# Altium schematic symbol library SMD STATION.SCHLIB: 18 symbols
Pins are listed as number, name and electrical type; pins without a type are passive.

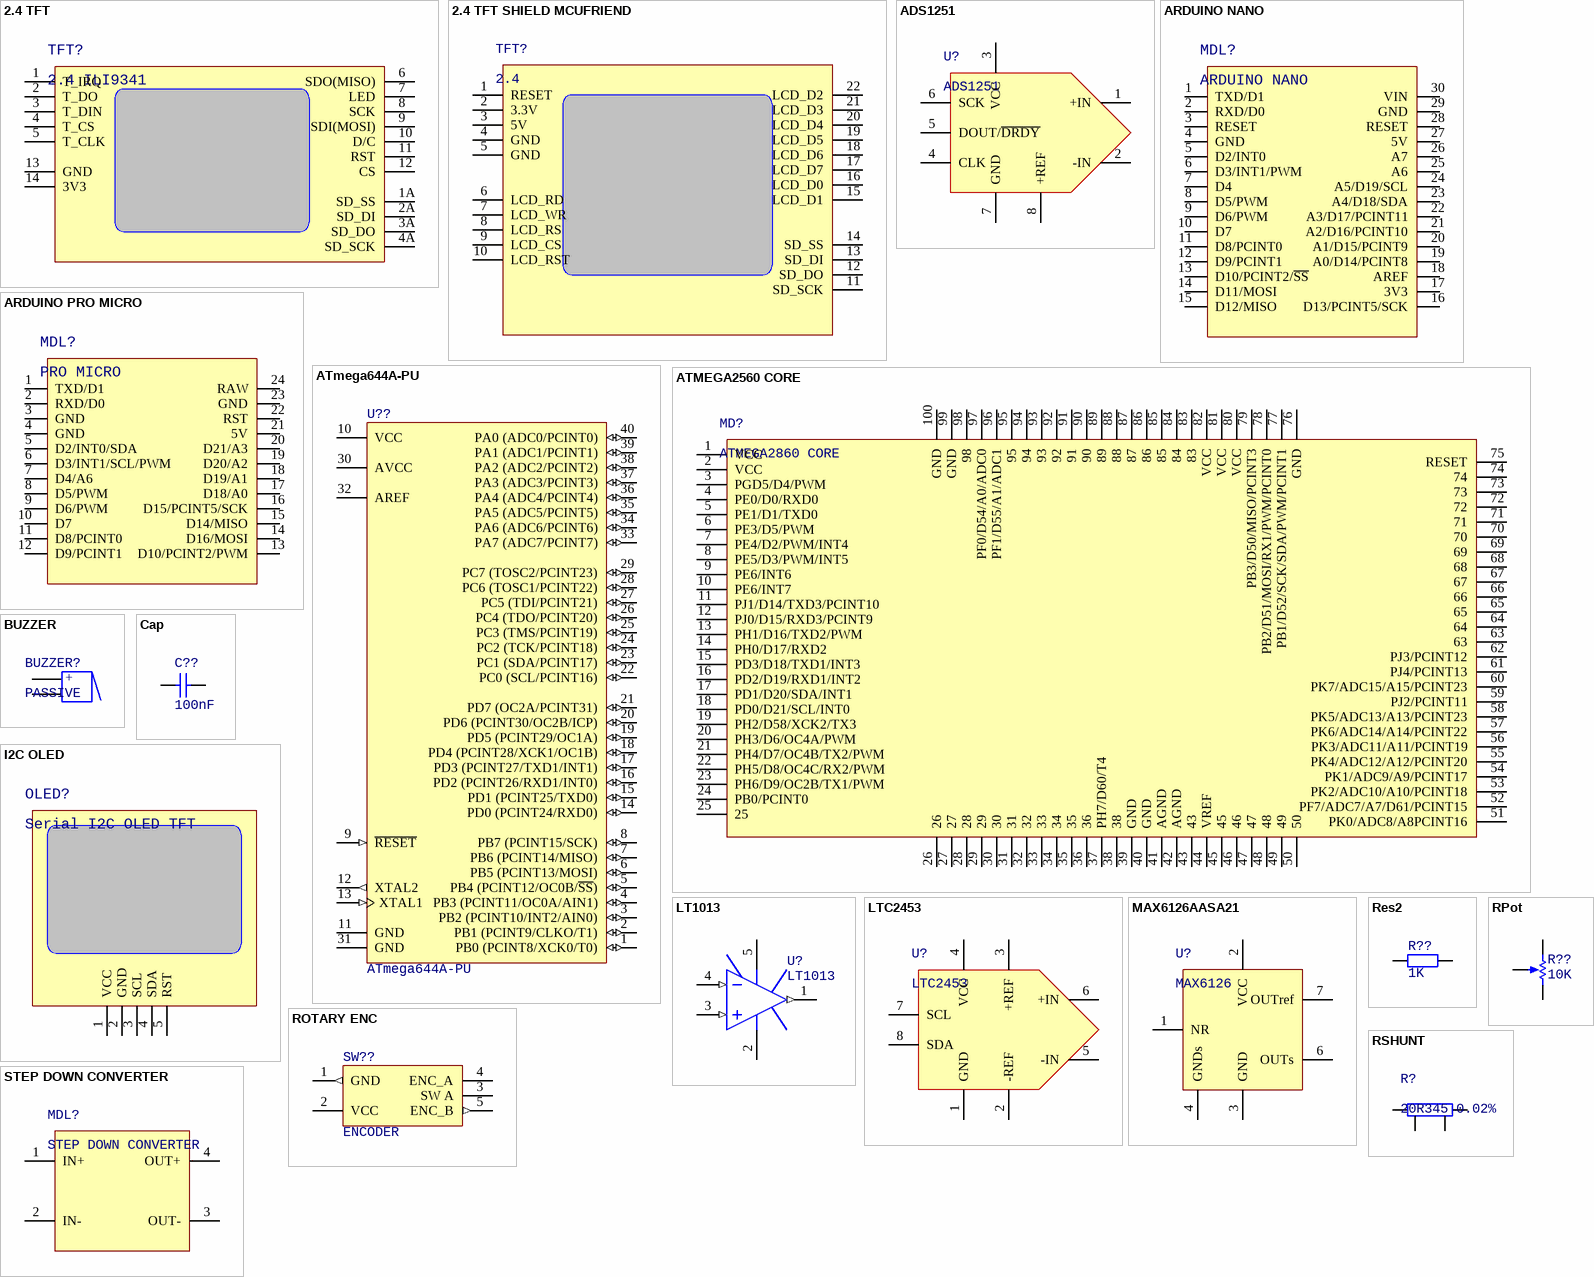
[diagram p0: symbols 2.4 TFT to STEP DOWN CONVERTER]

## 2.4 TFT
designator TFT?, comment 2.4 ILI9341
footprint HDR1X18 (Connector; Header; 18 Position)
pins: 1 T_IRQ, 1A SD_SS, 2 T_DO, 2A SD_DI, 3 T_DIN, 3A SD_DO, 4 T_CS, 4A SD_SCK, 5 T_CLK, 6 SDO(MISO), 7 LED, 8 SCK, 9 SDI(MOSI), 10 D/C, 11 RST, 12 CS, 13 GND, 14 3V3

## 2.4 TFT SHIELD MCUFRIEND
designator TFT?, comment 2.4
footprint ARDUINO UNO
pins: 1 RESET, 2 3.3V, 3 5V, 4 GND, 5 GND, 6 LCD_RD, 7 LCD_WR, 8 LCD_RS, 9 LCD_CS, 10 LCD_RST, 11 SD_SCK, 12 SD_DO, 13 SD_DI, 14 SD_SS, 15 LCD_D1, 16 LCD_D0, 17 LCD_D7, 18 LCD_D6, 19 LCD_D5, 20 LCD_D4, 21 LCD_D3, 22 LCD_D2

## ADS1251
designator U?
24bit ADC, Serial Output
pins: 1 +IN, 2 -IN, 3 VCC, 4 CLK, 5 DOUT/~{DRDY}, 6 SCK, 7 GND, 8 +REF

## ARDUINO NANO
designator MDL?
footprint ARDUINO NANO
pins: 1 TXD/D1, 2 RXD/D0, 3 RESET, 4 GND, 5 D2/INT0, 6 D3/INT1/PWM, 7 D4, 8 D5/PWM, 9 D6/PWM, 10 D7, 11 D8/PCINT0, 12 D9/PCINT1, 13 D10/PCINT2/~{SS}, 14 D11/MOSI, 15 D12/MISO, 16 D13/PCINT5/SCK, 17 3V3, 18 AREF, 19 A0/D14/PCINT8, 20 A1/D15/PCINT9, 21 A2/D16/PCINT10, 22 A3/D17/PCINT11, 23 A4/D18/SDA, 24 A5/D19/SCL, 25 A6, 26 A7, 27 5V, 28 RESET, 29 GND, 30 VIN

## ARDUINO PRO MICRO
designator MDL?, comment PRO MICRO
footprint ARDUINO PRO MICRO
pins: 1 TXD/D1, 2 RXD/D0, 3 GND, 4 GND, 5 D2/INT0/SDA, 6 D3/INT1/SCL/PWM, 7 D4/A6, 8 D5/PWM, 9 D6/PWM, 10 D7, 11 D8/PCINT0, 12 D9/PCINT1, 13 D10/PCINT2/PWM, 14 D16/MOSI, 15 D14/MISO, 16 D15/PCINT5/SCK, 17 D18/A0, 18 D19/A1, 19 D20/A2, 20 D21/A3, 21 5V, 22 RST, 23 GND, 24 RAW

## ATmega644A-PU
designator U??
8-bit AVR Microcontroller, 64KB Flash, 2KB EEPROM, 4KB SRAM, 40-pin PDIP, Industrial Grade (-40°C to 85°C); Published: 1-Apr-2010; DatasheetVersion: revA, Jan-2010; PackageVersion: revB, Sep-2001; PackageReference: 40P6; Publisher: Altium Limited; PackageDescription: 40-lead (0.600"/15.24mm Wide) Plastic Dual Inline Package (PDIP); Supplier 1: Digi-Key; Supplier Part Number 1: ATMEGA644A-PU-ND; Supplier 2: Mouser; Supplier Part Number 2: 556-ATMEGA644A-PU; Code_JEDEC: MS-011-AC; ComponentLink1Description: Manufacturer Link; ComponentLink1URL: http://www.atmel.com/products/avr/default.asp?; ComponentLink2Description: ATmega164A/164PA/324A/324PA/644A/644PA/1284/1284P Datasheet; ComponentLink2URL: http://www.atmel.com/dyn/resources/prod_documents/doc8272.pdf; ComponentLink3Description: ATmega164A/164PA/324A/324PA/644A/644PA/1284/1284P Summary; ComponentLink3URL: http://www.atmel.com/dyn/resources/prod_documents/8272S.pdf; ComponentLink4Description: Atmel.com Home; ComponentLink4URL: http://www.atmel.com
footprint 40P6 (DIP, 40-Leads, Row Spacing 15.24mm, Pitch 2.54mm, Body 52.2x13.95mm)
pins: 1 PB0 (PCINT8/XCK0/T0) (io), 2 PB1 (PCINT9/CLKO/T1) (io), 3 PB2 (PCINT10/INT2/AIN0) (io), 4 PB3 (PCINT11/OC0A/AIN1) (io), 5 PB4 (PCINT12/OC0B/~{SS}) (io), 6 PB5 (PCINT13/MOSI) (io), 7 PB6 (PCINT14/MISO) (io), 8 PB7 (PCINT15/SCK) (io), 9 ~{RESET} (in), 10 VCC (power), 11 GND (power), 12 XTAL2 (out), 13 XTAL1 (in), 14 PD0 (PCINT24/RXD0) (io), 15 PD1 (PCINT25/TXD0) (io), 16 PD2 (PCINT26/RXD1/INT0) (io), 17 PD3 (PCINT27/TXD1/INT1) (io), 18 PD4 (PCINT28/XCK1/OC1B) (io), 19 PD5 (PCINT29/OC1A) (io), 20 PD6 (PCINT30/OC2B/ICP) (io), 21 PD7 (OC2A/PCINT31) (io), 22 PC0 (SCL/PCINT16) (io), 23 PC1 (SDA/PCINT17) (io), 24 PC2 (TCK/PCINT18) (io), 25 PC3 (TMS/PCINT19) (io), 26 PC4 (TDO/PCINT20) (io), 27 PC5 (TDI/PCINT21) (io), 28 PC6 (TOSC1/PCINT22) (io), 29 PC7 (TOSC2/PCINT23) (io), 30 AVCC (power), 31 GND (power), 32 AREF (power), 33 PA7 (ADC7/PCINT7) (io), 34 PA6 (ADC6/PCINT6) (io), 35 PA5 (ADC5/PCINT5) (io), 36 PA4 (ADC4/PCINT4) (io), 37 PA3 (ADC3/PCINT3) (io), 38 PA2 (ADC2/PCINT2) (io), 39 PA1 (ADC1/PCINT1) (io), 40 PA0 (ADC0/PCINT0) (io)

## ATMEGA2560 CORE
designator MD?, comment ATMEGA2860 CORE
footprint ATMEGA 2560 CORE
pins: 1 VCC, 2 VCC, 3 PGD5/D4/PWM, 4 PE0/D0/RXD0, 5 PE1/D1/TXD0, 6 PE3/D5/PWM, 7 PE4/D2/PWM/INT4, 8 PE5/D3/PWM/INT5, 9 PE6/INT6, 10 PE6/INT7, 11 PJ1/D14/TXD3/PCINT10, 12 PJ0/D15/RXD3/PCINT9, 13 PH1/D16/TXD2/PWM, 14 PH0/D17/RXD2, 15 PD3/D18/TXD1/INT3, 16 PD2/D19/RXD1/INT2, 17 PD1/D20/SDA/INT1, 18 PD0/D21/SCL/INT0, 19 PH2/D58/XCK2/TX3, 20 PH3/D6/OC4A/PWM, 21 PH4/D7/OC4B/TX2/PWM, 22 PH5/D8/OC4C/RX2/PWM, 23 PH6/D9/OC2B/TX1/PWM, 24 PB0/PCINT0, 25, 26, 27, 28, 29, 30, 31, 32, 33, 34, 35, 36, 37 PH7/D60/T4, 38, 39 GND, 40 GND, 41 AGND, 42 AGND, 43, 44 VREF, 45, 46, 47, 48, 49, 50, 51 PK0/ADC8/A8PCINT16, 52 PF7/ADC7/A7/D61/PCINT15, 53 PK2/ADC10/A10/PCINT18, 54 PK1/ADC9/A9/PCINT17, 55 PK4/ADC12/A12/PCINT20, 56 PK3/ADC11/A11/PCINT19, 57 PK6/ADC14/A14/PCINT22, 58 PK5/ADC13/A13/PCINT23, 59 PJ2/PCINT11, 60 PK7/ADC15/A15/PCINT23, 61 PJ4/PCINT13, 62 PJ3/PCINT12, 63, 64, 65, 66, 67, 68, 69, 70, 71, 72, 73, 74, 75 RESET, 76 GND, 77 PB1/D52/SCK/SDA/PWM/PCINT1, 78 PB2/D51/MOSI/RX1/PWM/PCINT0, 79 PB3/D50/MISO/PCINT3, 80 VCC, 81 VCC, 82 VCC, 83, 84, 85, 86, 87, 88, 89, 90, 91, 92, 93, 94, 95, 96 PF1/D55/A1/ADC1, 97 PF0/D54/A0/ADC0, 98, 99 GND, 100 GND

## BUZZER
designator BUZZER?, comment PASSIVE
footprint BUZZER
pins: 1, 2
text: +

## Cap
designator C??, comment 100nF
Capacitor; Value: 100pF; Published: 8-Jun-2000; LatestRevisionDate: 17-Jul-2002; LatestRevisionNote: Re-released for DXP Platform.; PackageReference: RAD-0.3; Publisher: Altium Limited
footprint RAD-0.3 (Capacitor; 2 Leads)
footprint VP32-3.2 (Capacitor, Ceramic, Thru-Hole, Dipped Radial; Body 5.1 x 3.2 mm (WxT) Pin Spacing 2.54 mm (typ))
footprint VP45-3.2 (Capacitor, Ceramic, Thru-Hole, Dipped Radial; Body 7.8 x 3.2 mm (WxT) Pin Spacing 5.08 mm (typ))
simulation model CAP (Capacitor)
signal-integrity model Cap
pins: 1, 2

## I2C OLED
designator OLED?, comment Serial I2C OLED TFT
footprint HDR1x5 (Connector; Header; 5 Position)
pins: 1 VCC, 2 GND, 3 SCL, 4 SDA, 5 RST

## LT1013
designator U?
JFET-Input Operational Amplifier; Published: 16-Jan-2001; LatestRevisionDate: 13-Apr-2006; LatestRevisionNote: IPC-7351 Footprint Added.; DatasheetVersion: Aug-1994; PackageVersion: Jan-1998; PackageReference: D008; Publisher: Altium Limited; PackageDescription: 8-Pin Small Outline Integrated Circuit 1.27 mm Pitch; Code_IPC: SOIC127P600-8; ComponentLink1Description: Manufacturer Link; ComponentLink1URL: http://www.ti.com/; ComponentLink2Description: Datasheet; ComponentLink2URL: http://www-s.ti.com/sc/ds/tl070.pdf
footprint D008_L (SOIC, 8-Leads, Body 4.9x3.9mm, Pitch 1.27mm, IPC High Density)
footprint D008_M (SOIC, 8-Leads, Body 4.9x3.9mm, Pitch 1.27mm, IPC Low Density)
footprint D008_M (SOIC, 8-Leads, Body 4.9x3.9mm, Pitch 1.27mm, IPC Low Density)
3D model D008 (8-Pin Small Outline Integrated Circuit 1.27 mm Pitch)
simulation model TL070 (SUBCKT)
pins: 1 OUT (out), 2 V- (power), 3 IN+ (in), 4 IN- (in), 5 V+ (power)

## LTC2453
designator U?
Ultra-Tiny, Differential,  16-Bit DS ADC With  I2C Interface
pins: 1 GND, 2 -REF, 3 +REF, 4 VCC, 5 -IN, 6 +IN, 7 SCL, 8 SDA

## MAX6126AASA21
designator U?, comment MAX6126
Ultra-High-Precision, Ultra-Low-Noise,  Series Voltage Reference
pins: 1 NR, 2 VCC, 3 GND, 4 GNDs, 6 OUTs, 7 OUTref

## Res2
designator R??, comment 1K
Resistor; Published: 8-Jun-2000; LatestRevisionDate: 17-Jul-2002; LatestRevisionNote: Re-released for DXP Platform.; PackageReference: AXIAL-0.4; Publisher: Altium Limited; PackageDescription: Axial Device, Thru-Hole; 2 Leads; 0.4 in Pin Spacing; Value: 1K
footprint AXIAL-0.4 (Axial Device, Thru-Hole; 2 Leads; 0.4 in Pin Spacing)
simulation model RESISTOR (Resistor)
signal-integrity model Res
pins: 1, 2

## ROTARY ENC
designator SW??, comment ENCODER
footprint ROT ENC (Footprint not found)
footprint HDR1X5 (Connector; Header; 5 Position)
pins: 1 GND (out), 2 VCC, 3 SW A, 4 ENC_A, 5 ENC_B (out)

## RPot
designator R??, comment 10Κ
Potentiometer; Sim Note: Enter the Resistance value and the set point into parameter fields.; Set Position: 0.5; Value: 1K; Published: 8-Jun-2000; LatestRevisionDate: 17-Jul-2002; LatestRevisionNote: Re-released for DXP Platform.; PackageReference: VR5; Publisher: Altium Limited; PackageDescription: Variable Resistor, Thru-Hole; 3 Leads
footprint VR5 (Thru-Hole; 3 Leads)
simulation model POT (Potentiometer)
pins: 1 TOP, 2 BOT, 3 TAP
1 alternate drawing of the same symbol

## RSHUNT
designator R?, comment 20R345 0.02%
pins: 1, 2, 3, 4

## STEP DOWN CONVERTER
designator MDL?
footprint STEP DOWN CONVERTER MINI
pins: 1 IN+, 2 IN-, 3 OUT-, 4 OUT+